# EAGLE library part TEENSY_3.5_DIL+4 (library teensy)
DIL version of Teensy 3.5 plus the VUSB/A10/A11/AREF PINS
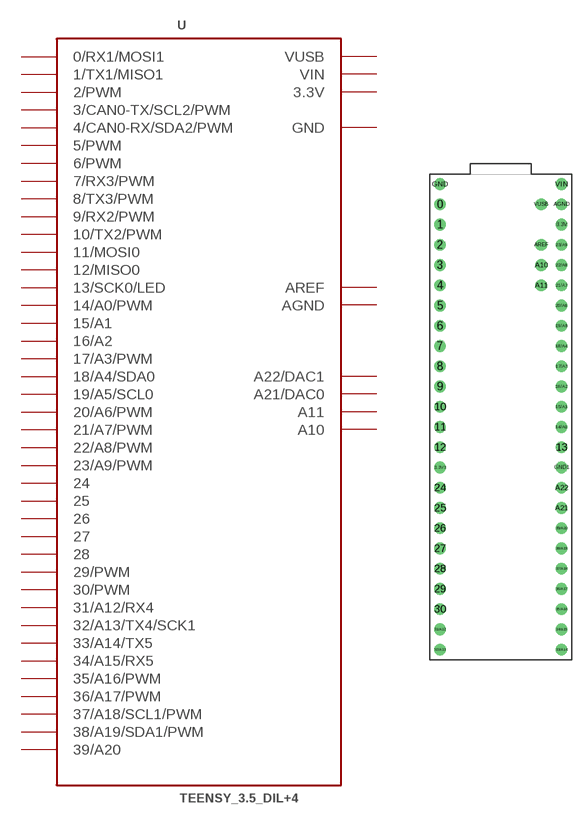
[diagram p21: symbol with the pads of TEENSY_3.5_DIL+4; footprint TEENSY_3.5_DIL+4]

Designator prefix U

## TEENSY_3.5_DIL+4  [TEENSY_3.5_DIL+4]
0  0/RX1/MOSI1
1  1/TX1/MISO1
2  2/PWM
3  3/CAN0-TX/SCL2/PWM
3.3V  3.3V  pwr
3.3V3  3.3V  pwr
4  4/CAN0-RX/SDA2/PWM
5  5/PWM
6  6/PWM
7  7/RX3/PWM
8  8/TX3/PWM
9  9/RX2/PWM
10  10/TX2/PWM
11  11/MOSI0
12  12/MISO0
13  13/SCK0/LED
14/A0  14/A0/PWM
15/A1  15/A1
16/A2  16/A2
17/A3  17/A3/PWM
18/A4  18/A4/SDA0
19/A5  19/A5/SCL0
20/A6  20/A6/PWM
21/A7  21/A7/PWM
22/A8  22/A8/PWM
23/A9  23/A9/PWM
24  24
25  25
26  26
27  27
28  28
29  29/PWM
30  30/PWM
31/A12  31/A12/RX4
32/A13  32/A13/TX4/SCK1
33/A14  33/A14/TX5
34/A15  34/A15/RX5
35/A16  35/A16/PWM
36/A17  36/A17/PWM
37/A18  37/A18/SCL1/PWM
38/A19  38/A19/SDA1/PWM
39/A20  39/A20
A10  A10
A11  A11
A21  A21/DAC0
A22  A22/DAC1
AGND  AGND  pwr
AREF  AREF  pwr
GND  GND  pwr
GND1  GND  pwr
VIN  VIN  pwr
VUSB  VUSB  pwr

## Footprint TEENSY_3.5_DIL+4 (pad centres in mm)
drill 0.965: 0 -7.62,26.67; 1 -7.62,24.13; 2 -7.62,21.59; 3 -7.62,19.05; 3.3V 7.62,24.13; 3.3V3 -7.62,-6.35; 4 -7.62,16.51; 5 -7.62,13.97; 6 -7.62,11.43; 7 -7.62,8.89; 8 -7.62,6.35; 9 -7.62,3.81; 10 -7.62,1.27; 11 -7.62,-1.27; 12 -7.62,-3.81; 13 7.62,-3.81; 14/A0 7.62,-1.27; 15/A1 7.62,1.27; 16/A2 7.62,3.81; 17/A3 7.62,6.35; 18/A4 7.62,8.89; 19/A5 7.62,11.43; 20/A6 7.62,13.97; 21/A7 7.62,16.51; 22/A8 7.62,19.05; 23/A9 7.62,21.59; 24 -7.62,-8.89; 25 -7.62,-11.43; 26 -7.62,-13.97; 27 -7.62,-16.51; 28 -7.62,-19.05; 29 -7.62,-21.59; 30 -7.62,-24.13; 31/A12 -7.62,-26.67; 32/A13 -7.62,-29.21; 33/A14 7.62,-29.21; 34/A15 7.62,-26.67; 35/A16 7.62,-24.13; 36/A17 7.62,-21.59; 37/A18 7.62,-19.05; 38/A19 7.62,-16.51; 39/A20 7.62,-13.97; A10 5.08,19.05; A11 5.08,16.51; A21 7.62,-11.43; A22 7.62,-8.89; AGND 7.62,26.67; AREF 5.08,21.59; GND -7.62,29.21; GND1 7.62,-6.35; VIN 7.62,29.21; VUSB 5.08,26.67